# Altium footprint library MSOP16-SPE-LTC3604.PcbLib: 1 footprints
Each footprint in its own frame and in the unit in brackets; x right, y up, seen from the top. Pads: shape width x height; smd on the part's side, far side on the other; paste and mask are expansions set on the pad; w line width, h text height; cw(c..) or ccw(c..) is an arc to the next point about the centre after c.
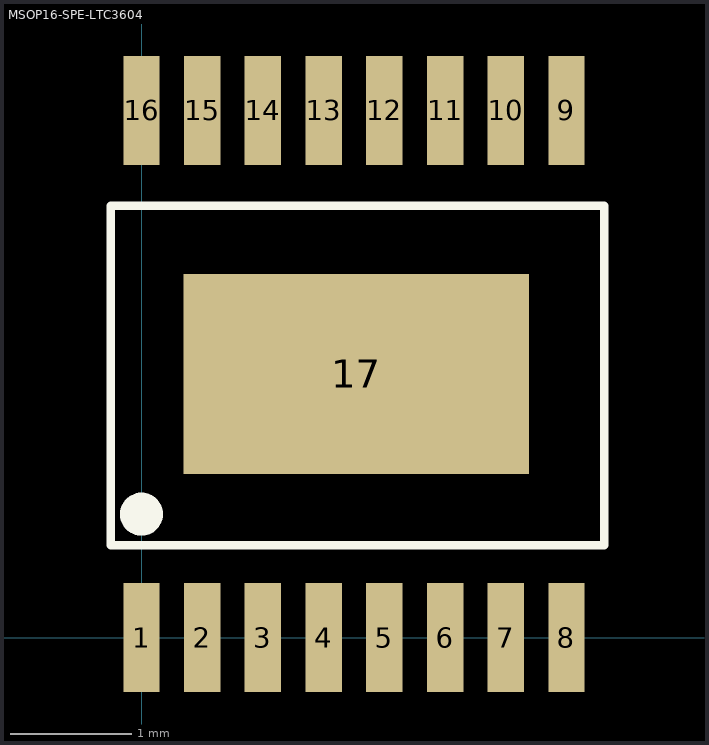
[diagram p0: the footprint, top view; thin cyan lines are the x and y axes]

## MSOP16-SPE-LTC3604 [mm]
pads (18):
  rect 0.3x0.9 smd: 1(0,0) 2(0.5,0) 3(1,0) 4(1.5,0) 5(2,0) 6(2.5,0) 7(3,0) 8(3.5,0) 9(3.5,4.341) 10(3,4.341) 11(2.5,4.341) 12(2,4.341) 13(1.5,4.341) 14(1,4.341) 15(0.5,4.341) 16(0,4.341)
  rect 2.845x1.651 smd paste-1: 17(1.77,2.171)
  rect 1.8x1 on Top Paste: ""(1.778,2.171)
Top Overlay:
  circle w0.254: c0,1.016 r0.05
  lines w0.07: -0.254,0.762 -0.254,3.556 3.81,3.556 3.81,0.762 -0.254,0.762
3D body: height 0.85, standoff -0.01, extent -0.279,-0.279 3.76,4.621